# Altium schematic symbol library JST_XH_SERIES.Schlib: 2 symbols
Pins are listed as number, name and electrical type; pins without a type are passive.

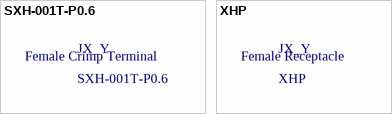
[diagram p0: symbols SXH-001T-P0.6 to XHP]

## SXH-001T-P0.6
designator JX_Y  (mechanical)
text: Female Crimp Terminal

## XHP
designator JX_Y  (mechanical)
text: Female Receptacle